# Altium schematic symbol library B4B-ZR(LF)(SN).SchLib: 1 symbol
Pins are listed as number, name and electrical type; pins without a type are passive.

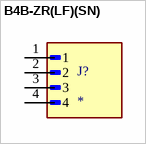
[diagram p0: symbol B4B-ZR(LF)(SN)]

## B4B-ZR(LF)(SN)
designator J?
Connector Header Through Hole 4 position 0.059 (1.50mm); MF: JST Sales; MP: B4B-ZR(LF)(SN); SnapEDA_Link: https://www.snapeda.com/parts/B4B-ZR(LF)(SN)/JST+Sales+America+Inc./view-part/?ref=snap; Package: None; Value: *; Check_prices: https://www.snapeda.com/parts/B4B-ZR(LF)(SN)/JST+Sales+America+Inc./view-part/?ref=eda
footprint JST_B4B-ZR(LF)(SN)
pins: 1, 2, 3, 4